# Altium schematic symbol library CSD87313DMS.Schlib: 1 symbol
Pins are listed as number, name and electrical type; pins without a type are passive.

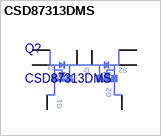
[diagram p0: symbol CSD87313DMS]

## CSD87313DMS
designator Q?
pins: 1 G1, 2 D, 3 D, 4 G2, 5 S2, 6 S2, 7 S1, 8 S1